# EAGLE library part LPC1343FHN33,551 (library NXP_By_element14_Batch_1)
32-bit ARM Cortex-M3 microcontroller up to 32 kB flash and8 kB SRAM USB device
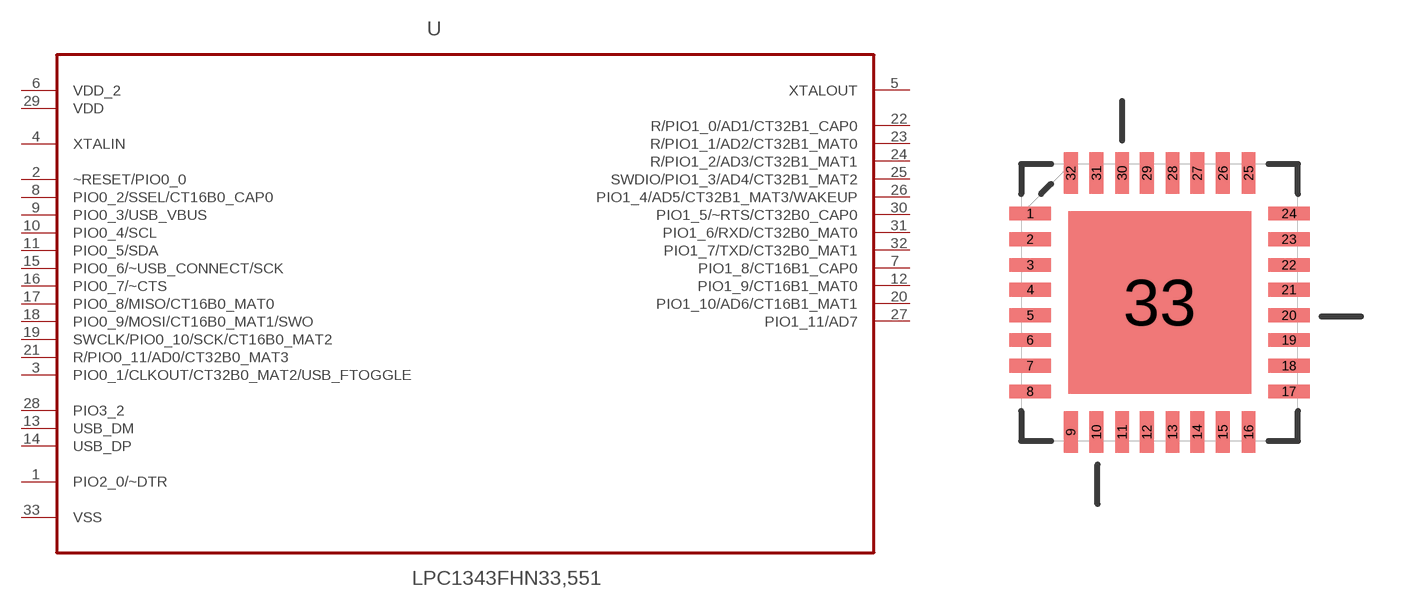
[diagram p352: symbol with the pads of QFN65P700X700X100-33N; footprint QFN65P700X700X100-33N]

Designator prefix U

## LPC1343FHN33,551 (MPN: LPC1343FHN33,551; OC_FARNELL: 1831159; OC_NEWARK: 70R5591; P1I: o; PACKAGE: HVQFN-32; SUPPLIER: NXP)  [QFN65P700X700X100-33N]
1  PIO2_0/~DTR
2  ~RESET/PIO0_0
3  PIO0_1/CLKOUT/CT32B0_MAT2/USB_FTOGGLE
4  XTALIN  in
5  XTALOUT  out
6  VDD_2  pwr
7  PIO1_8/CT16B1_CAP0
8  PIO0_2/SSEL/CT16B0_CAP0
9  PIO0_3/USB_VBUS
10  PIO0_4/SCL
11  PIO0_5/SDA
12  PIO1_9/CT16B1_MAT0
13  USB_DM
14  USB_DP
15  PIO0_6/~USB_CONNECT/SCK
16  PIO0_7/~CTS
17  PIO0_8/MISO/CT16B0_MAT0
18  PIO0_9/MOSI/CT16B0_MAT1/SWO
19  SWCLK/PIO0_10/SCK/CT16B0_MAT2
20  PIO1_10/AD6/CT16B1_MAT1
21  R/PIO0_11/AD0/CT32B0_MAT3
22  R/PIO1_0/AD1/CT32B1_CAP0
23  R/PIO1_1/AD2/CT32B1_MAT0
24  R/PIO1_2/AD3/CT32B1_MAT1
25  SWDIO/PIO1_3/AD4/CT32B1_MAT2
26  PIO1_4/AD5/CT32B1_MAT3/WAKEUP
27  PIO1_11/AD7
28  PIO3_2
29  VDD  pwr
30  PIO1_5/~RTS/CT32B0_CAP0
31  PIO1_6/RXD/CT32B0_MAT0
32  PIO1_7/TXD/CT32B0_MAT1
33  VSS  pas

## Footprint QFN65P700X700X100-33N (pad centres in mm)
smd 1.067 x 0.356: 1 -3.327,2.286; 2 -3.327,1.626; 3 -3.327,0.965; 4 -3.327,0.33; 5 -3.327,-0.33; 6 -3.327,-0.965; 7 -3.327,-1.626; 8 -3.327,-2.286; 17 3.327,-2.286; 18 3.327,-1.626; 19 3.327,-0.965; 20 3.327,-0.33; 21 3.327,0.33; 22 3.327,0.965; 23 3.327,1.626; 24 3.327,2.286
smd 0.356 x 1.067: 9 -2.286,-3.327; 10 -1.626,-3.327; 11 -0.965,-3.327; 12 -0.33,-3.327; 13 0.33,-3.327; 14 0.965,-3.327; 15 1.626,-3.327; 16 2.286,-3.327; 25 2.286,3.327; 26 1.626,3.327; 27 0.965,3.327; 28 0.33,3.327; 29 -0.33,3.327; 30 -0.965,3.327; 31 -1.626,3.327; 32 -2.286,3.327
smd 4.699 x 4.699: 33 0,0